# Altium footprint library ICs.PcbLib: 115 footprints (part 4 of 8)
Each footprint in its own frame and in the unit in brackets; x right, y up, seen from the top. Pads: shape width x height; smd on the part's side, far side on the other; paste and mask are expansions set on the pad; w line width, h text height; cw(c..) or ccw(c..) is an arc to the next point about the centre after c.
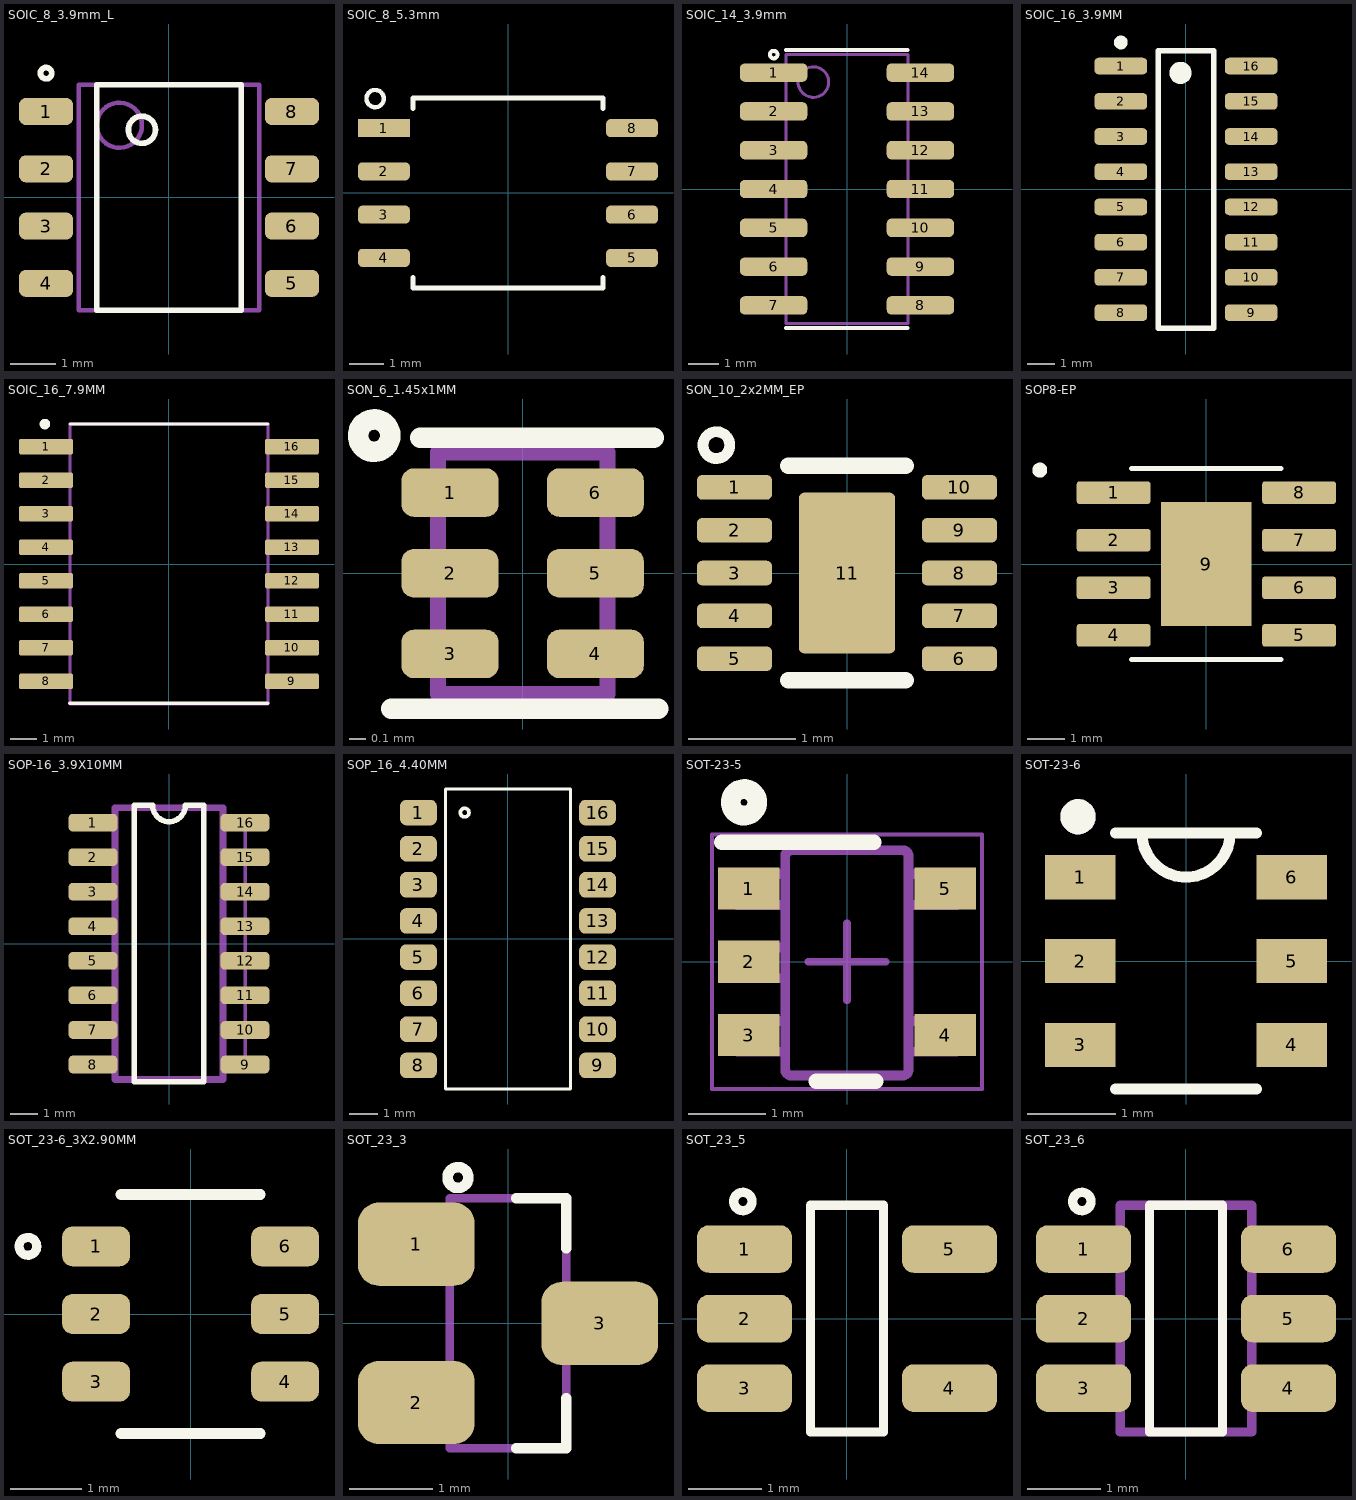
[diagram p3: the footprints below, top view; thin cyan lines are the x and y axes]

## SOIC_8_3.9mm_L [mm] "/ 20190702 / J-P.Vargas.A"
pads (8):
  rrect50% 1.2x0.6 smd: 1(-2.725,1.905) 2(-2.725,0.635) 3(-2.725,-0.635) 4(-2.725,-1.905) 5(2.725,-1.905) 6(2.725,-0.635) 7(2.725,0.635) 8(2.725,1.905)
Top Overlay:
  circle w0.127: c-0.6,1.5 r0.3
  circle w0.127: c-2.725,2.755 r0.125
  lines w0.127: -1.6,-2.5 1.6,-2.5 1.6,2.5 -1.6,2.5 -1.6,-2.5
Mechanical 1:
  circle w0.1: c-1.1,1.6 r0.5
  lines w0.1: -2,-2.5 -2,2.5 2,2.5 2,-2.5 -2,-2.5
3D body "SOIC127P600X173-8N.step": height 1.73, standoff 0, extent -3.01,-2.5 3.01,2.5

## SOIC_8_5.3mm [mil] "/ 20230822 /N-A.Potosi"
pads (8):
  rect 60x21 smd: 1(-143.5,75)
  rrect50% 60x21 smd: 2(-143.5,25) 3(-143.5,-25) 4(-143.5,-75) 5(143.5,-75) 6(143.5,-25) 7(143.5,25) 8(143.5,75)
Top Overlay:
  circle w5: c-153.65,109.21 r10.02
  lines w6: -110,-98.12 -110,-110 110,-110 110,-98.12 ; -110,98.12 -110,110 110,110 110,98.12
3D body "SOIC_128JVSIM_WIN.step": height 85.12, standoff 0, extent -159.49,-105 159.49,105

## SOIC_14_3.9mm [mm] "SO_14 / 20190225 / C-A.Serna.A"
pads (14):
  rrect50% 2.2x0.6 smd: 1(-2.4,3.81) 2(-2.4,2.54) 3(-2.4,1.27) 4(-2.4,0) 5(-2.4,-1.27) 6(-2.4,-2.54) 7(-2.4,-3.81) 8(2.4,-3.81) 9(2.4,-2.54) 10(2.4,-1.27) 11(2.4,0) 12(2.4,1.27) 13(2.4,2.54) 14(2.4,3.81)
Top Overlay:
  circle w0.127: c-2.4,4.4 r0.125
  lines w0.127: -2.007,-4.547 1.981,-4.547 ; -2.007,4.547 1.981,4.547
Mechanical 1:
  circle w0.1: c-1.1,3.5 r0.5
  lines w0.1: -2,-4.4 -2,4.4 2,4.4 2,-4.4 -2,-4.4
3D body "NOPB.STEP": height 1.75, standoff 0, extent -3,-4.325 3,4.325

## SOIC_16_3.9MM [mm] "/20201210/M-C.Calderon"
pads (16):
  rrect50% 1.9x0.6 smd: 1(-2.35,4.445) 2(-2.35,3.175) 3(-2.35,1.905) 4(-2.35,0.635) 5(-2.35,-0.635) 6(-2.35,-1.905) 7(-2.35,-3.175) 8(-2.35,-4.445) 9(2.35,-4.445) 10(2.35,-3.175) 11(2.35,-1.905) 12(2.35,-0.635) 13(2.35,0.635) 14(2.35,1.905) 15(2.35,3.175) 16(2.35,4.445)
Top Overlay:
  circle w0.25: c-2.35,5.295 r0.125
  circle w0.4: c-0.2,4.2 r0.2
  lines w0.2: -1,-5 -1,5 1,5 1,-5 -1,-5
3D body "TLV5627CD.STEP": height 1.75, standoff 0, extent -2.997,-4.953 2.997,4.953

## SOIC_16_7.9MM [mm] "/20220107/J-E.Pachon"
pads (16):
  rrect25% 2.05x0.59 smd: 1(-4.655,4.445) 2(-4.655,3.175) 3(-4.655,1.905) 4(-4.655,0.635) 5(-4.655,-0.635) 6(-4.655,-1.905) 7(-4.655,-3.175) 8(-4.655,-4.445) 9(4.655,-4.445) 10(4.655,-3.175) 11(4.655,-1.905) 12(4.655,-0.635) 13(4.655,0.635) 14(4.655,1.905) 15(4.655,3.175) 16(4.655,4.445)
Top Overlay:
  circle w0.2: c-4.697,5.3 r0.1
  lines w0.127: -3.76,-5.277 3.74,-5.277 ; -3.75,5.3 3.75,5.3
Mechanical 13:
  lines w0.127: -3.75,-5.288 3.75,-5.288 3.75,5.3 -3.75,5.3 -3.75,-5.288
3D body "DS3231SN.STEP": height 2.65, standoff 0, extent -5.245,-5.15 5.08,5.15

## SON_6_1.45x1MM [mm] "UFDFN_6/20210405/V-A.Patino"
pads (6):
  rrect50% 0.6x0.3 smd: 1(-0.45,0.5) 2(-0.45,0) 3(-0.45,-0.5) 4(0.45,-0.5) 5(0.45,0) 6(0.45,0.5)
Top Overlay:
  circle w0.127: c-0.92,0.853 r0.1
  lines w0.127: -0.813,-0.838 0.838,-0.838 ; -0.636,0.841 0.813,0.838
Mechanical 1:
  lines w0.1: -0.525,-0.75 0.525,-0.75 0.525,0.75 -0.525,0.75 -0.525,-0.75
3D body: height 0.6, standoff 0, extent -0.525,-0.75 0.525,0.75

## SON_10_2x2MM_EP [mm] "WFDFN_10/20210405/V-A.Patino"
height 0.8
pads (11):
  rrect43% 0.7x0.23 smd: 1(-1.05,0.8) 2(-1.05,0.4) 3(-1.05,0) 4(-1.05,-0.4) 5(-1.05,-0.8) 6(1.05,-0.8) 7(1.05,-0.4) 8(1.05,0) 9(1.05,0.4) 10(1.05,0.8)
  rrect11% 0.9x1.5 smd: 11(0,0)
Top Overlay:
  circle w0.1: c-1.219,1.194 r0.125
  lines w0.152: -0.549,1 0.549,1 ; -0.549,-1 0.549,-1
3D body: height 0.8, standoff 0, extent -1,-1 1,1

## SOP8-EP [mm] "/200326/ J.Jaramillo"
pads (9):
  rrect25% 1.97x0.6 smd: 1(-2.475,1.905) 2(-2.475,0.635) 3(-2.475,-0.635) 4(-2.475,-1.905) 5(2.475,-1.905) 6(2.475,-0.635) 7(2.475,0.635) 8(2.475,1.905)
  rect 2.413x3.302 smd: 9(0,0)
Top Overlay:
  circle w0.2: c-4.445,2.505 r0.1
  lines w0.127: -2,-2.55 2,-2.55 ; -2,2.55 2,2.55
Top Paste:
  region: 0.645,-0.82 -0.645,-0.82 -0.645,0.82 0.645,0.82
3D body "step_temp.STEP": height 1.75, standoff 0, extent -3,-2.45 3,2.45

## SOP-16_3.9X10MM [mm] "/ 20240315 / J.Jaramillo"
pads (16):
  rrect50% 1.8x0.65 smd: 1(-2.794,4.445) 2(-2.794,3.175) 3(-2.794,1.905) 4(-2.794,0.635) 5(-2.794,-0.635) 6(-2.794,-1.905) 7(-2.794,-3.175) 8(-2.794,-4.445) 9(2.794,-4.445) 10(2.794,-3.175) 11(2.794,-1.905) 12(2.794,-0.635) 13(2.794,0.635) 14(2.794,1.905) 15(2.794,3.175) 16(2.794,4.445)
Top Overlay:
  lines w0.203: -1.27,-5.08 -1.27,5.08 -0.6,5.08 ccw(c0,5.08) 0.6,5.08 1.27,5.08 1.27,-5.08 -1.27,-5.08
Mechanical 1:
  lines w0.127: 2.794,-4.445 2.794,4.445
  lines w0.254: 1.979,-4.991 -1.979,-4.991 -1.979,4.991 1.979,4.991 1.979,-4.991
3D body "step_temp.STEP": height 1.8, standoff 0, extent -3,-5 3,5

## SOP_16_4.40MM [mm] "/20220606/F-A.Ospina"
pads (16):
  rrect50% 1.3x0.9 smd: 1(-3.15,4.445) 2(-3.15,3.175) 3(-3.15,1.905) 4(-3.15,0.635) 5(-3.15,-0.635) 6(-3.15,-1.905) 7(-3.15,-3.175) 8(-3.15,-4.445) 9(3.15,-4.445) 10(3.15,-3.175) 11(3.15,-1.905) 12(3.15,-0.635) 13(3.15,0.635) 14(3.15,1.905) 15(3.15,3.175) 16(3.15,4.445)
Top Overlay:
  circle w0.127: c-1.524,4.445 r0.152
  lines w0.102: -2.2,5.275 2.2,5.275 ; -2.2,5.275 -2.2,-5.275 2.2,-5.275 2.2,5.275 ; -2.2,5.275 2.2,5.275
3D body "SO16_VISHAY_TCMT410X_VIS.step": height 2.11, standoff 0, extent -3.447,-5.194 3.447,5.194

## SOT-23-5 [mm] "/ 070726 / J.Jaramillo"
pads (5):
  rect 0.8x0.55 smd paste+0 mask+0.051: 1(-1.275,0.95) 2(-1.275,0) 3(-1.275,-0.95) 4(1.275,-0.95) 5(1.275,0.95)
Top Overlay:
  circle w0.254: c-1.336,2.068 r0.172
  lines w0.2: -1.625,1.55 0.35,1.55 ; -0.4,-1.55 0.375,-1.55
Top Solder:
  circle w0.254: c-1.336,2.068 r0.172
Mechanical 13:
  lines w0.127: -0.801,1.371 cw(c-0.725,1.37) -0.725,1.446 ; -0.801,1.37 -0.801,-1.399 -0.801,-1.4 ccw(c-0.725,-1.399) -0.725,-1.475 ; -0.801,1.37 -0.801,1.371 ; -0.725,-1.475 -0.725,-1.475 ; -0.725,-1.475 0.723,-1.475 0.724,-1.475 ccw(c0.723,-1.399) 0.799,-1.4 0.799,-1.399 0.799,1.37 ; -0.725,1.446 0.723,1.446 0.724,1.446 cw(c0.723,1.37) 0.799,1.371 ; -0.725,1.446 -0.725,1.446 ; 0.799,1.37 0.799,1.371 ; -1.423,-1.167 -1.199,-1.167 -1.105,-1.167 -1.088,-1.167 -0.835,-1.167 -0.801,-1.167 -0.801,-0.767 -0.835,-0.767 -1.088,-0.767 -1.105,-0.767 -1.199,-0.767 -1.423,-0.767 -1.423,-1.167 ; -1.423,-0.215 -1.199,-0.215 -1.105,-0.215 -1.088,-0.215 -0.835,-0.215 -0.801,-0.215 -0.801,0.186 -0.835,0.186 -1.088,0.186 -1.105,0.186 -1.199,0.186 -1.423,0.186 -1.423,-0.215 ; -1.423,0.738 -1.199,0.738 -1.105,0.738 -1.088,0.738 -0.835,0.738 -0.801,0.738 -0.801,1.138 -0.835,1.138 -1.088,1.138 -1.105,1.138 -1.199,1.138 -1.423,1.138 -1.423,0.738 ; 0.799,-1.167 0.799,-0.767 0.834,-0.767 1.087,-0.767 1.103,-0.767 1.198,-0.767 1.422,-0.767 1.422,-1.167 1.198,-1.167 1.103,-1.167 1.087,-1.167 0.834,-1.167 0.799,-1.167 ; 0.799,0.738 0.799,1.138 0.834,1.138 1.087,1.138 1.103,1.138 1.198,1.138 1.422,1.138 1.422,0.738 1.198,0.738 1.103,0.738 1.087,0.738 0.834,0.738 0.799,0.738
Mechanical 15:
  lines w0.05: -1.75,-1.65 -1.75,1.65 1.75,1.65 1.75,-1.65 -1.75,-1.65
  lines w0.1: -0.5,0 0.5,0 ; 0,-0.5 0,0.5
3D body "DBV0005A.stp": height 1.2, standoff 0, extent -1.4,-1.45 1.4,1.45

## SOT-23-6 [mm] "/ 200326 / J.Jaramillo"
pads (6):
  rect 0.8x0.5 smd: 1(-1.2,0.95) 2(-1.2,0) 3(-1.2,-0.95) 4(1.2,-0.95) 5(1.2,0) 6(1.2,0.95)
Top Overlay:
  circle w0.2: c-1.223,1.636 r0.1
  lines w0.127: -0.8,-1.45 0.8,-1.45 ; -0.8,1.45 0.8,1.45 ; -0.5,1.45 ccw(c0,1.45) 0.5,1.45
Mechanical 13:
  circle w0.2: c-1.223,1.636 r0.1
3D body "step_temp.STEP": height 1.45, standoff 0, extent -1.4,-1.45 1.4,1.45

## SOT_23-6_3X2.90MM [mil] "/20220901/F-A.Ospina"
pads (6):
  rrect50% 37.5x22 smd: 1(-52.25,37.4) 2(-52.25,0) 3(-52.25,-37.4) 4(52.25,-37.4) 5(52.25,0) 6(52.25,37.4)
Top Overlay:
  circle w5: c-90,37.4 r4.92
  lines w6: -38.5,-66 38.5,-66 ; -38.5,66 38.5,66
3D body "SOT26-A1_DIO.step": height 57.09, standoff 0, extent -57,-60.98 57.01,60.99

## SOT_23_3 [mm] "/20200728/M-C.CalderonC"
pads (3):
  rrect50% 1.4x1 smd: 1(-1.1,0.95) 2(-1.1,-0.95) 3(1.1,0)
Top Overlay:
  circle w0.127: c-0.6,1.75 r0.125
  lines w0.127: 0.1,-1.5 0.7,-1.5 0.7,-0.9 ; 0.1,1.5 0.7,1.5 0.7,0.9
Mechanical 1:
  lines w0.1: -0.7,-1.5 0.7,-1.5 0.7,1.5 -0.7,1.5 -0.7,-1.5
3D body: height 1.1, standoff 0.1, extent -0.7,-1.5 0.7,1.5

## SOT_23_5 [mm] "/ 20220804/ J-E.Pachon"
height 1.45
pads (5):
  rrect50% 1.3x0.65 smd: 1(-1.4,0.95) 2(-1.4,0) 3(-1.4,-0.95) 4(1.4,-0.95) 5(1.4,0.95)
Top Overlay:
  circle w0.127: c-1.422,1.6 r0.125
  lines w0.127: -0.5,-1.55 -0.5,1.55 0.5,1.55 0.5,-1.55 -0.5,-1.55
3D body "SOT-23-5_MC_MCH.step": height 1.45, standoff 0, extent -1.6,-1.549 1.6,1.549

## SOT_23_6 [mm] "/ 20190225 / C-A.Serna.A"
height 1.45
pads (6):
  rrect50% 1.3x0.65 smd: 1(-1.4,0.95) 2(-1.4,0) 3(-1.4,-0.95) 4(1.4,-0.95) 5(1.4,0) 6(1.4,0.95)
Top Overlay:
  circle w0.127: c-1.422,1.6 r0.125
  lines w0.127: -0.5,-1.55 0.5,-1.55 0.5,1.55 -0.5,1.55 -0.5,-1.55
Mechanical 1:
  lines w0.127: -0.9,-1.55 0.9,-1.55 0.9,1.55 -0.9,1.55 -0.9,-1.55
3D body "SOT23-6-2.step": height 1.45, standoff 0, extent -1.501,-1.45 1.299,1.45